# Altium footprint library LM1117MPX-5P0NOPB.PcbLib: 3 footprints
Each footprint in its own frame and in the unit in brackets; x right, y up, seen from the top. Pads: shape width x height; smd on the part's side, far side on the other; paste and mask are expansions set on the pad; w line width, h text height; cw(c..) or ccw(c..) is an arc to the next point about the centre after c.
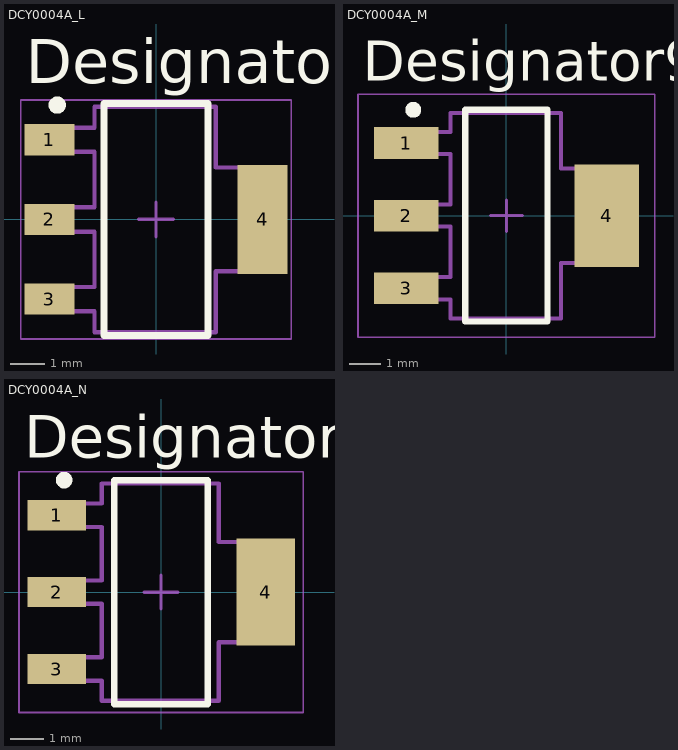
[diagram p0: the footprints below, top view; thin cyan lines are the x and y axes]

## DCY0004A_L [mm]
pads (4):
  rect 1.45x0.9 smd paste+0 mask+0.051: 1(-3.075,2.3) 2(-3.075,0) 3(-3.075,-2.3)
  rect 1.45x3.15 smd paste+0 mask+0.051: 4(3.075,0)
Top Overlay:
  circle w0.25: c-2.85,3.3 r0.125
  lines w0.2: -1.5,-3.35 -1.5,3.35 1.5,3.35 1.5,-3.35 -1.5,-3.35
  text "Designator9" at -3.759,3.937 h1.27
Mechanical 13:
  lines w0.127: -3.525,-2.65 -3.525,-1.95 -2.797,-1.95 -2.612,-1.95 -2.374,-1.95 -2.003,-1.95 -1.775,-1.95 -1.775,-0.35 -2.003,-0.35 -2.374,-0.35 -2.612,-0.35 -2.797,-0.35 -3.525,-0.35 -3.525,0.35 -2.797,0.35 -2.612,0.35 -2.374,0.35 -2.003,0.35 -1.775,0.35 -1.775,1.95 -2.003,1.95 -2.374,1.95 -2.612,1.95 -2.797,1.95 -3.525,1.95 -3.525,2.65 -2.797,2.65 -2.612,2.65 -2.374,2.65 -2.003,2.65 -1.775,2.65 -1.775,3.25 1.725,3.25 1.725,1.5 1.953,1.5 2.324,1.5 2.562,1.5 2.747,1.5 3.475,1.5 3.475,-1.5 2.747,-1.5 2.562,-1.5 2.324,-1.5 1.953,-1.5 1.725,-1.5 1.725,-3.25 -1.775,-3.25 -1.775,-2.65 -2.003,-2.65 -2.374,-2.65 -2.612,-2.65 -2.797,-2.65 -3.525,-2.65
Mechanical 15:
  lines w0.05: -3.9,-3.45 -3.9,3.45 3.9,3.45 3.9,-3.45 -3.9,-3.45
  lines w0.1: -0.5,0 0.5,0 ; 0,-0.5 0,0.5
3D body "MP04A_TEX.step": height 1.81, standoff 0, extent -3.645,-3.353 3.645,3.353

## DCY0004A_M [mm]
pads (4):
  rect 2.05x1 smd paste+0 mask+0.051: 1(-3.175,2.3) 2(-3.175,0) 3(-3.175,-2.3)
  rect 2.05x3.25 smd paste+0 mask+0.051: 4(3.175,0)
Top Overlay:
  circle w0.25: c-2.95,3.35 r0.125
  lines w0.2: -1.3,-3.35 1.3,-3.35 1.3,3.35 -1.3,3.35 -1.3,-3.35
  text "Designator9" at -4.547,4.267 h1.27
Mechanical 13:
  lines w0.127: -3.525,-2.65 -3.525,-1.95 -2.797,-1.95 -2.612,-1.95 -2.374,-1.95 -2.003,-1.95 -1.775,-1.95 -1.775,-0.35 -2.003,-0.35 -2.374,-0.35 -2.612,-0.35 -2.797,-0.35 -3.525,-0.35 -3.525,0.35 -2.797,0.35 -2.612,0.35 -2.374,0.35 -2.003,0.35 -1.775,0.35 -1.775,1.95 -2.003,1.95 -2.374,1.95 -2.612,1.95 -2.797,1.95 -3.525,1.95 -3.525,2.65 -2.797,2.65 -2.612,2.65 -2.374,2.65 -2.003,2.65 -1.775,2.65 -1.775,3.25 1.725,3.25 1.725,1.5 1.953,1.5 2.324,1.5 2.562,1.5 2.747,1.5 3.475,1.5 3.475,-1.5 2.747,-1.5 2.562,-1.5 2.324,-1.5 1.953,-1.5 1.725,-1.5 1.725,-3.25 -1.775,-3.25 -1.775,-2.65 -2.003,-2.65 -2.374,-2.65 -2.612,-2.65 -2.797,-2.65 -3.525,-2.65
Mechanical 15:
  lines w0.05: -4.7,-3.85 -4.7,3.85 4.7,3.85 4.7,-3.85 -4.7,-3.85
  lines w0.1: -0.5,0 0.5,0 ; 0,-0.5 0,0.5

## DCY0004A_N [mm]
pads (4):
  rect 1.75x0.9 smd paste+0 mask+0.051: 1(-3.125,2.3) 2(-3.125,0) 3(-3.125,-2.3)
  rect 1.75x3.2 smd paste+0 mask+0.051: 4(3.125,0)
Top Overlay:
  circle w0.25: c-2.9,3.35 r0.125
  lines w0.2: -1.4,-3.35 1.4,-3.35 1.4,3.35 -1.4,3.35 -1.4,-3.35
  text "Designator9" at -4.089,4.013 h1.27
Mechanical 13:
  lines w0.127: -3.525,-2.65 -2.797,-2.65 -2.612,-2.65 -2.374,-2.65 -2.003,-2.65 -1.775,-2.65 -1.775,-3.25 1.725,-3.25 1.725,-1.5 1.953,-1.5 2.324,-1.5 2.562,-1.5 2.747,-1.5 3.475,-1.5 3.475,1.5 2.747,1.5 2.562,1.5 2.324,1.5 1.953,1.5 1.725,1.5 1.725,3.25 -1.775,3.25 -1.775,2.65 -2.003,2.65 -2.374,2.65 -2.612,2.65 -2.797,2.65 -3.525,2.65 -3.525,1.95 -2.797,1.95 -2.612,1.95 -2.374,1.95 -2.003,1.95 -1.775,1.95 -1.775,0.35 -2.003,0.35 -2.374,0.35 -2.612,0.35 -2.797,0.35 -3.525,0.35 -3.525,-0.35 -2.797,-0.35 -2.612,-0.35 -2.374,-0.35 -2.003,-0.35 -1.775,-0.35 -1.775,-1.95 -2.003,-1.95 -2.374,-1.95 -2.612,-1.95 -2.797,-1.95 -3.525,-1.95 -3.525,-2.65
Mechanical 15:
  lines w0.05: -4.25,-3.6 -4.25,3.6 4.25,3.6 4.25,-3.6 -4.25,-3.6
  lines w0.1: -0.5,0 0.5,0 ; 0,-0.5 0,0.5